# Altium schematic symbol library xt60.SchLib: 1 symbol
Pins are listed as number, name and electrical type; pins without a type are passive.

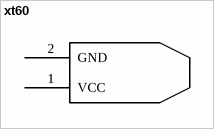
[diagram p0: symbol xt60]

## xt60
designator xt60_connector  (value not drawn)
footprint xt60
pins: 1 VCC, 2 GND